# Altium schematic symbol library SCH - DIODES - LED BLUE.SCHLIB: 1 symbol
Pins are listed as number, name and electrical type; pins without a type are passive.

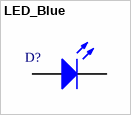
[diagram p0: symbol LED_Blue]

## LED_Blue
designator D?  (value not drawn)
WL-SMCW SMD Mono-color Chip LED Waterclear, size 0603, Blue, 3.2 V, 140°
pins: 1 K, 2 A